# Altium footprint library transistor.PcbLib: 27 footprints (part 2 of 2)
Each footprint in its own frame and in the unit in brackets; x right, y up, seen from the top. Pads: shape width x height; smd on the part's side, far side on the other; paste and mask are expansions set on the pad; w line width, h text height; cw(c..) or ccw(c..) is an arc to the next point about the centre after c.
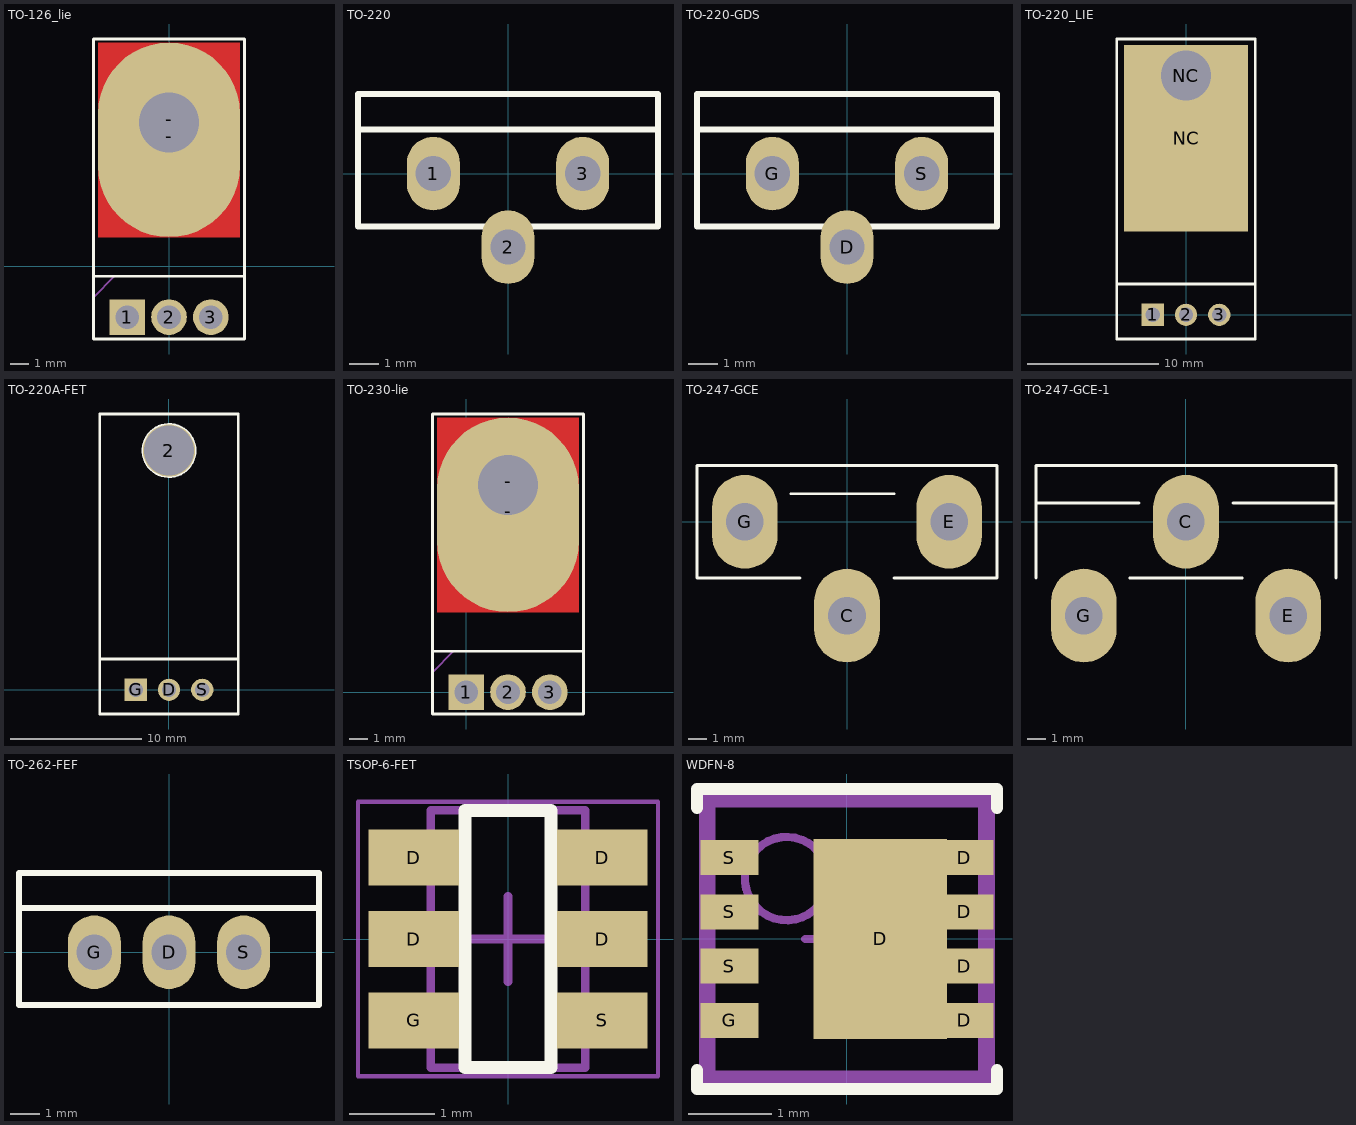
[diagram p1: the footprints below, top view; thin cyan lines are the x and y axes]

## TO-126_lie [mm]
pads (5):
  rect 1.965x1.965 hole 1.31: 1(-2.3,-2.8)
  round 1.965 hole 1.31: 2(0,-2.8) 3(2.3,-2.8)
  shape10 7.8x10.7 smd: -(0,6.95)
  round 3.3 hole 3.3 unplated: -(0,7.9)
Top Layer:
  region: -3.9,12.3 3.9,12.3 3.9,1.6 -3.9,1.6
Top Overlay:
  lines w0.15: -4.15,12.5 4.15,12.5 ; -4.15,12.5 -4.15,-0.55 ; 4.15,12.5 4.15,-0.55 ; -4.15,-0.55 -4.15,-2.8 -4.15,-4 4.15,-4 4.15,-0.55 ; -4.15,-0.55 4.15,-0.55
Mechanical 13:
  lines w0.1: -4.15,-1.7 -3,-0.55 ; -4.15,-4 4.15,-4 4.15,-0.55 -4.15,-0.55 -4.15,-4
3D body "TO-126_lie.stp": height 3.25, standoff -1.15, extent -4,-3.1 4,11.9

## TO-220 [mm]
pads (3):
  oval 1.8x2.5 hole 1.2: 1(-2.54,0) 2(0,-2.5) 3(2.54,0)
Top Overlay:
  lines w0.2: -5.1,1.5 5.1,1.5 ; -5.1,-1.8 5.1,-1.8 5.1,2.7 -5.1,2.7 -5.1,-1.8
3D body "TO-220.STEP": height 21.9, standoff -3.6, extent -5,-2.805 5,2.805

## TO-220-GDS [mm]
pads (3):
  oval 1.8x2.5 hole 1.2: D(0,-2.5) G(-2.54,0) S(2.54,0)
Top Overlay:
  lines w0.2: -5.1,1.5 5.1,1.5 ; -5.1,-1.8 5.1,-1.8 5.1,2.7 -5.1,2.7 -5.1,-1.8
3D body "TO-220.STEP": height 21.9, standoff -3.6, extent -5,-2.805 5,2.805

## TO-220_LIE [mm]
pads (5):
  rect 1.7x1.7 hole 1.1: 1(-2.54,0)
  round 1.7 hole 1.1: 2(0,0) 3(2.54,0)
  round 4 hole 3.8: NC(0,18.288)
  rect 9.5x14.25 smd: NC(0,13.5)
Top Overlay:
  circle w0.2: c0,18.288 r2
  lines w0.2: -5.3,2.35 5.3,2.35 ; -5.3,-1.85 5.3,-1.85 5.3,21.082 -5.3,21.082 -5.3,-1.85
3D body "TO220.STEP": height 4.5, standoff -3.5, extent -5.2,-0.254 5.2,20.846

## TO-220A-FET [mm] "TO, Thru-Hole, Vertical, Heatsink Mounted; 3 In-Line Leads; Pitch 2.54 mm"
height 19.7
pads (4):
  round 4 hole 3.8: 2(0,18.288)
  round 1.7 hole 1.1: D(0,0) S(2.54,0)
  rect 1.7x1.7 hole 1.1: G(-2.54,0)
Top Overlay:
  circle w0.2: c0,18.288 r2
  lines w0.2: -5.3,2.35 5.3,2.35 ; -5.3,-1.85 5.3,-1.85 5.3,21.082 -5.3,21.082 -5.3,-1.85
3D body "TO220.STEP": height 4.5, standoff -3.5, extent -5.2,-0.254 5.2,20.846

## TO-230-lie [mm]
pads (5):
  rect 1.965x1.965 hole 1.31: 1(0,0)
  round 1.965 hole 1.31: 2(2.3,0) 3(4.6,0)
  shape10 7.8x10.7 smd: -(2.3,9.75)
  round 3.3 hole 3.3 unplated: -(2.3,11.4)
Top Layer:
  region: -1.6,15.1 6.2,15.1 6.2,4.4 -1.6,4.4
Top Overlay:
  lines w0.15: -1.85,2.25 -1.85,15.3 6.45,15.3 6.45,2.25 ; -1.85,2.25 6.45,2.25 ; -1.85,2.25 -1.85,0 -1.85,-1.2 6.45,-1.2 6.45,2.25
Mechanical 13:
  lines w0.1: -1.85,1.1 -0.7,2.25 ; -1.85,-1.2 -1.85,2.25 6.45,2.25 6.45,-1.2 -1.85,-1.2
3D body: height 2.8, standoff 0, extent -1.65,4.25 6.25,15.15

## TO-247-GCE [mm]
pads (3):
  oval 3.5x5 hole 2: C(0,-5) E(5.45,0) G(-5.45,0)
Top Overlay:
  lines w0.15: -3,1.5 2.5,1.5 ; -2.5,-3 -8,-3 -8,3 8,3 8,-3 2.5,-3
3D body "TO-247AC.STEP": height 26.15, standoff -3.84, extent -7.5,-5.2 7.5,3

## TO-247-GCE-1 [mm]
pads (3):
  oval 3.5x5 hole 2: C(0,0) E(5.45,-5) G(-5.45,-5)
Top Overlay:
  lines w0.15: -8,-3 -8,3 8,3 8,-3 ; -8,1 -2.5,1 ; -3,-3 3,-3 ; 2.5,1 8,1
3D body "TO-247AC-1.STEP": height 26.15, standoff -3.84, extent -7.5,-5.2 7.5,3

## TO-262-FEF [mm]
height 13
pads (3):
  oval 1.8x2.5 hole 1.2: D(0,0) G(-2.54,0) S(2.54,0)
Top Overlay:
  lines w0.2: -5.1,1.5 5.1,1.5 ; -5.1,-1.8 5.1,-1.8 5.1,2.7 -5.1,2.7 -5.1,-1.8

## TSOP-6-FET [mm] "TSOP, 6-Leads, Body 2,90x1,63mm, Pitch 0,95mm, IPC High Density"
height 1.5
pads (6):
  rect 1.06x0.65 smd: D(-1.1,0) D(-1.1,0.95) D(1.1,0) D(1.1,0.95) G(-1.1,-0.95) S(1.1,-0.95)
Top Overlay:
  lines w0.15: -0.5,-1.5 0.5,-1.5 0.5,1.5 -0.5,1.5 -0.5,-1.5
  text "." at -1.069,1.808 h0.1
Top Courtyard:
  lines w0.05: -1.75,-1.6 1.75,-1.6 1.75,1.6 -1.75,1.6 -1.75,-1.6
  lines w0.1: -0.5,0 0.5,0 ; 0,-0.5 0,0.5
Mechanical 13:
  lines w0.1: -0.9,-1.5 0.9,-1.5 0.9,1.5 -0.9,1.5 -0.9,-1.5
3D body "TSOP-6-FET.step": height 1.5, standoff 0, extent -1.4,-1.5 1.4,1.5

## WDFN-8 [mm] "WDFN-8, 8-Leads, Body 3,30x3,30mm, Pitch 0,65mm, IPC High Density"
height 0.75
pads (9):
  rect 1.6x2.4 smd: D(0.4,0)
  rect 0.7x0.42 smd: D(1.41,-0.975) D(1.41,-0.325) D(1.41,0.325) D(1.41,0.975) G(-1.41,-0.975) S(-1.41,-0.325) S(-1.41,0.325) S(-1.41,0.975)
Top Overlay:
  lines w0.15: -1.8,-1.575 -1.8,-1.8 1.8,-1.8 1.8,-1.575 ; -1.8,1.575 -1.8,1.8 1.8,1.8 1.8,1.575
  text "." at -2.2,1.6 h0.1
Top Courtyard:
  lines w0.1: -0.5,0 0.5,0 ; 0,-0.5 0,0.5
  lines w0.15: -1.7,-1.75 -1.7,1.75 1.7,1.75 1.7,-1.75 -1.7,-1.75
Mechanical 13:
  circle w0.1: c-0.725,0.725 r0.5
  lines w0.15: -1.65,-1.65 -1.65,1.65 1.65,1.65 1.65,-1.65 -1.65,-1.65
3D body "WDFN-8.step": height 0.75, standoff 0.1, extent -1.65,-1.65 1.65,1.65